# EAGLE library part AD826 (library IC)
Analog Devices High Speed, Dual Op Amp AD826
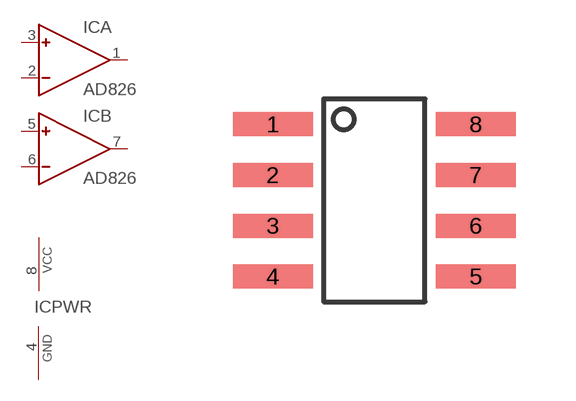
[diagram p61: symbol with the pads of SO8; footprint SO8]

Designator prefix IC; gates A=OPAMP B=OPAMP PWR=PWR-VCC-GND

## AD826  [SO8]
1  A:OUT  out
2  A:IN-  in
3  A:IN+  in
4  PWR:GND  pwr
5  B:IN+  in
6  B:IN-  in
7  B:OUT  out
8  PWR:VCC  pwr

## Footprint SO8 (pad centres in mm)
smd 2 x 0.6: 1 -2.54,1.905; 2 -2.54,0.635; 3 -2.54,-0.635; 4 -2.54,-1.905; 5 2.54,-1.905; 6 2.54,-0.635; 7 2.54,0.635; 8 2.54,1.905